# Altium schematic symbol library part_library.SchLib: 18 symbols
Pins are listed as number, name and electrical type; pins without a type are passive.

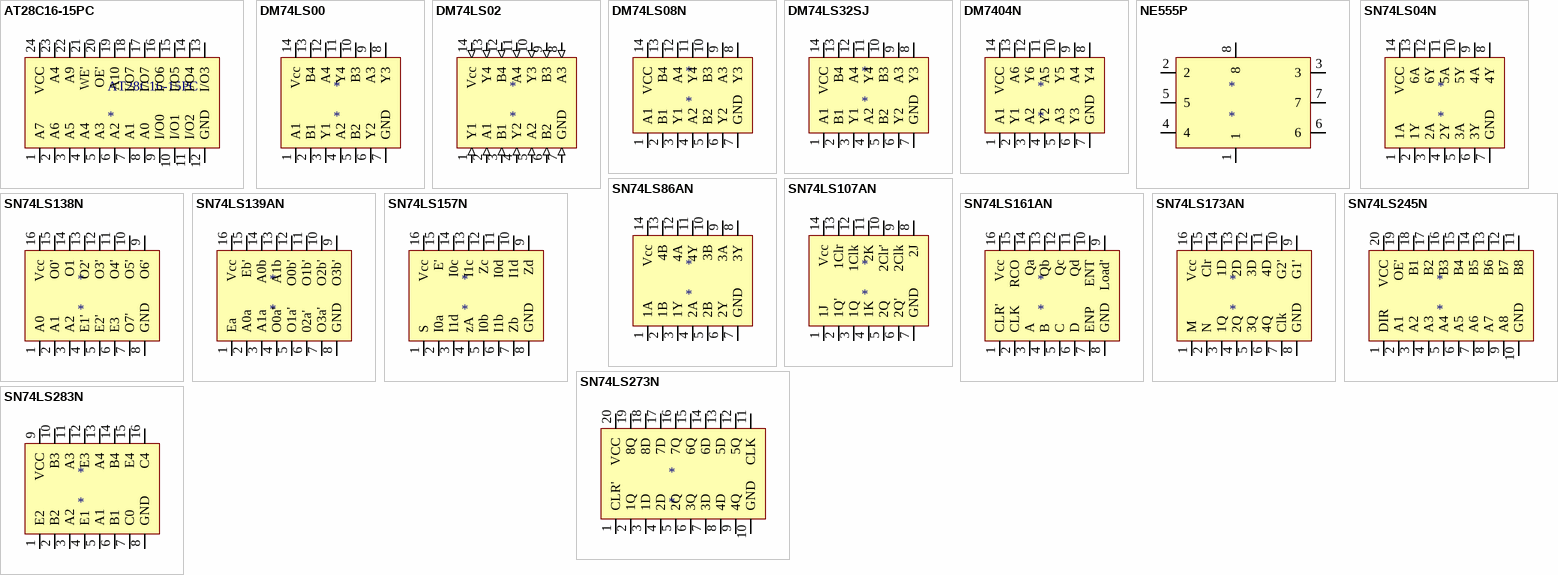
[diagram p0: symbols AT28C16-15PC to SN74LS283N]

## AT28C16-15PC
designator AT28C16-15PC
Manufacturer: Microchip / Atmel; Manufacturer Part Number: AT28C16-15PC; Access Time: 150ns; Operating Supply Voltage: 5V; Nominal Supply Current: 30mA; Min Supply Voltage: 4.5V; Max Supply Voltage: 5.5V; Interface: Parallel; Density: 16Kb; Memory Type: EEPROM; Frequency: 150GHz; Supplier 1: Digi-Key; Stock 1: 0; Mount: Through Hole; Case/Package: DIP; Number of Pins: 24; Min Operating Temperature: 0°C; Max Operating Temperature: 70°C; Package Quantity: 16; Packaging: Rail/Tube; Memory Size: 16Kb; Lead Free: Contains Lead; ComponentLink1URL: http://www.atmel.com/Images/doc0540.pdf?src-supplier=Digi-Key; ComponentLink1Description: http://www.atmel.com/Images/doc0540.pdf?src-supplier=Digi-Key; ComponentLink2URL: http://components.arrow.com/part/dataview/66884S2427492N3744?src-supplier=Arrow; ComponentLink2Description: http://components.arrow.com/part/dataview/66884S2427492N3744?src-supplier=Arrow; Supplier Part Number 1: AT28C16-15PC-ND
footprint AT28C16-15PC
pins: 1 A7, 2 A6, 3 A5, 4 A4, 5 A3, 6 A2, 7 A1, 8 A0, 9 I/O0, 10 I/O1, 11 I/O2, 12 GND, 13 I/O3, 14 I/O4, 15 I/O5, 16 I/O6, 17 I/O7, 18 I/O7, 19 A10, 20 OE', 21 WE', 22 A9, 23 A4, 24 VCC

## DM74LS00
designator *
Quad NAND gate 14-pin DIP
footprint DM74LS00
pins: 1 A1, 2 B1, 3 Y1, 4 A2, 5 B2, 6 Y2, 7 GND, 8 Y3, 9 A3, 10 B3, 11 Y4, 12 A4, 13 B4, 14 Vcc

## DM74LS02
designator *
Quad NOR gate 14-pin DIP
footprint DM74LS02
pins: 1 Y1 (in), 2 A1 (in), 3 B1 (in), 4 Y2 (in), 5 A2 (in), 6 B2 (in), 7 GND (in), 8 A3 (in), 9 B3 (in), 10 Y3 (in), 11 A4 (in), 12 B4 (in), 13 Y4 (in), 14 Vcc (in)

## DM74LS08N
designator *
IC GATE AND 4CH 2-INP 14-DIP; Manufacturer: ON Semiconductor / Fairchild; Manufacturer Part Number: DM74LS08N; Number of Gates: 4; Propagation Delay: 18ns; Max Supply Voltage: 5.25V; Min Supply Voltage: 4.75V; Number of Inputs: 2; Low Level Output Current: 8mA; High Level Output Current: -400uA; Supplier 1: Mouser; RoHS: Yes; Category: Logic Gates; Mount: Through Hole; Case/Package: DIP; Number of Pins: 14; Min Operating Temperature: 0°C; Max Operating Temperature: 70°C; Packaging: Rail/Tube; Package Quantity: 25; Number of Circuits: 4; Logic Function: AND; Lead Free: Contains Lead; ComponentLink1URL: https://datasheet.ciiva.com/4825/74ls08-196234-4825713.pdf?src-supplier=Mouser; ComponentLink1Description: https://datasheet.ciiva.com/4825/74ls08-196234-4825713.pdf?src-supplier=Mouser; ComponentLink2URL: https://datasheet.ciiva.com/1877/dm74ls08-1877307.pdf?src-supplier=Digi-Key; ComponentLink2Description: https://datasheet.ciiva.com/1877/dm74ls08-1877307.pdf?src-supplier=Digi-Key; Supplier Part Number 1: 512-DM74LS08N
footprint SN74LS08N
pins: 1 A1, 2 B1, 3 Y1, 4 A2, 5 B2, 6 Y2, 7 GND, 8 Y3, 9 A3, 10 B3, 11 Y4, 12 A4, 13 B4, 14 VCC

## DM74LS32SJ
designator *
Logic Gates Quad 2-Input OR Gate; Manufacturer: ON Semiconductor / Fairchild; Manufacturer Part Number: DM74LS32SJ; Propagation Delay: 15ns; Max Supply Voltage: 5.25V; Min Supply Voltage: 4.75V; Number of Gates: 4; Low Level Output Current: 8mA; High Level Output Current: -400uA; Number of Input Lines: 2; Number of Output Lines: 1; Supplier 1: Mouser; RoHS: Yes; Category: Logic Gates; Case/Package: SOP; Min Operating Temperature: 0°C; Max Operating Temperature: 70°C; Packaging: Rail/Tube; ComponentLink1URL: http://www.mouser.com/ds/2/149/FairchildSemiconductor_16141919504962-795956.pdf?src-supplier=Mouser; ComponentLink1Description: http://www.mouser.com/ds/2/149/FairchildSemiconductor_16141919504962-795956.pdf?src-supplier=Mouser; Supplier Part Number 1: 512-DM74LS32SJ
footprint SN74LS32N
pins: 1 A1, 2 B1, 3 Y1, 4 A2, 5 B2, 6 Y2, 7 GND, 8 Y3, 9 A3, 10 B3, 11 Y4, 12 A4, 13 B4, 14 VCC

## DM7404N
designator *
IC INVERTER HEX 14-DIP; Manufacturer: ON Semiconductor / Fairchild; Manufacturer Part Number: DM7404N; Max Supply Voltage: 5.25V; Min Supply Voltage: 4.75V; Number of Inputs: 1; Propagation Delay: 22ns; Number of Circuits: 6; Low Level Output Current: 16mA; Logic Function: Buffer,Inverter; High Level Output Current: -400uA; Operating Supply Voltage: 5V; Supplier 1: Mouser; RoHS: No; Category: Logic Gates; Mount: Through Hole; Case/Package: DIP; Number of Pins: 14; Min Operating Temperature: 0°C; Max Operating Temperature: 70°C; Packaging: Rail/Tube; Package Quantity: 25; Number of Gates: 6; Lead Free: Contains Lead; ComponentLink1URL: https://datasheet.ciiva.com/1877/dm7404-1877284.pdf?src-supplier=Digi-Key; ComponentLink1Description: https://datasheet.ciiva.com/1877/dm7404-1877284.pdf?src-supplier=Digi-Key; Supplier Part Number 1: 512-DM7404N
footprint SN74LS04N
pins: 1 A1, 2 Y1, 3 A2, 4 Y2, 5 A3, 6 Y3, 7 GND, 8 Y4, 9 A4, 10 Y5, 11 A5, 12 Y6, 13 A6, 14 VCC

## NE555P
designator *
TEXAS INSTRUMENTS         NE555P            TIMER SINGLE PRECISION,DIP8 ,0.5MHZ; Frequency: 500kHz; Quiescent Current: 15mA; Operating Supply Current: 10mA; Min Supply Voltage: 4.5V; Max Supply Voltage: 16V; Nominal Supply Current: 2mA; Number of Timers/Counters: 1; High Level Output Current: -200mA; Low Level Output Current: 200mA; Operating Supply Voltage: 5V; Supplier 1: Digi-Key; Manufacturer: Texas Instruments; Manufacturer Part Number: NE555P; RoHS: Yes; Category: Clock and Timing; Stock 1: 8033; Pricing 1: 1=0,45000, 10=0,34200, 25=0,30800, 100=0,21280, 250=0,17920, 500=0,14560, 1000=0,11200, 2500=0,10080, 5000=0,09520 (USD); Mount: Through Hole; Case/Package: PDIP; Number of Pins: 8; Weight: 0.015535oz; Contact Plating: Gold; Min Operating Temperature: 0°C; Max Operating Temperature: 70°C; Packaging: Rail/Tube; Package Quantity: 50; Current Rating: 10mA; Length: 9.81mm; Height: 4.57mm; Width: 6.35mm; Radiation Hardening: No; Lead Free: Lead Free; REACH SVHC: No SVHC; ComponentLink1URL: https://datasheet.ciiva.com/19457/904085-19457361.pdf?src-supplier=Jameco; ComponentLink1Description: https://datasheet.ciiva.com/19457/904085-19457361.pdf?src-supplier=Jameco; ComponentLink2URL: https://datasheet.ciiva.com/1139/sa555-1139904.pdf?src-supplier=Element14; ComponentLink2Description: https://datasheet.ciiva.com/1139/sa555-1139904.pdf?src-supplier=Element14; ComponentLink3URL: https://datasheet.ciiva.com/26325/152184-da-01-en-ne555p-timer-tid-26325915.pdf?src-supplier=Conrad; ComponentLink3Description: https://datasheet.ciiva.com/26325/152184-da-01-en-ne555p-timer-tid-26325915.pdf?src-supplier=Conrad; ComponentLink4URL: https://datasheet.ciiva.com/1147/1764032-1147750.pdf?src-supplier=Newark; ComponentLink4Description: https://datasheet.ciiva.com/1147/1764032-1147750.pdf?src-supplier=Newark; ComponentLink5URL: https://datasheet.ciiva.com/14094/ne555-series-eng-tds-14094950.pdf?src-supplier=Distrelec; ComponentLink5Description: https://datasheet.ciiva.com/14094/ne555-series-eng-tds-14094950.pdf?src-supplier=Distrelec; ComponentLink6URL: https://datasheet.ciiva.com/14274/ne555-14274456.pdf?src-supplier=Avnet; ComponentLink6Description: https://datasheet.ciiva.com/14274/ne555-14274456.pdf?src-supplier=Avnet; ComponentLink7URL: https://datasheet.ciiva.com/15152/getdatasheetpartid-248510-15152620.pdf?src-supplier=Verical; ComponentLink7Description: https://datasheet.ciiva.com/15152/getdatasheetpartid-248510-15152620.pdf?src-supplier=Verical; ComponentLink8URL: https://datasheet.ciiva.com/1233/ne555-1233454.pdf?src-supplier=Digi-Key; ComponentLink8Description: https://datasheet.ciiva.com/1233/ne555-1233454.pdf?src-supplier=Digi-Key; ComponentLink9URL: https://datasheet.ciiva.com/26228/ne555-26228892.pdf?src-supplier=Avnet+Europe; ComponentLink9Description: https://datasheet.ciiva.com/26228/ne555-26228892.pdf?src-supplier=Avnet+Europe; Supplier Part Number 1: 296-NE555P-ND
footprint LM555
pins: 1, 2, 3, 4, 5, 6, 7, 8

## SN74LS04N
designator *
IC HEX INVERTER 14-DIP; Manufacturer: Texas Instruments; Manufacturer Part Number: SN74LS04N; Propagation Delay: 15ns; Number of Gates: 6; Output Current: 8mA; Logic Function: Buffer,Inverter; Number of Inputs: 1; Min Supply Voltage: 4.75V; Max Supply Voltage: 5.25V; Operating Supply Voltage: 5V; Turn-On Delay Time: 22ns; High Level Output Current: -400uA; Nominal Supply Current: 100uA; Schmitt Trigger Input: No; Supplier 1: RSComponents; Stock 1: 0; Mount: Through Hole; Case/Package: PDIP; Number of Pins: 14; Weight: 0.032734oz; Contact Plating: Gold; Min Operating Temperature: 0°C; Max Operating Temperature: 70°C; Number of Bits: 6; Packaging: Rail/Tube; Number of Circuits: 6; Package Quantity: 25; Low Level Output Current: 8mA; Number of Elements: 6; Max Output Current: 8mA; Termination: Through Hole; Number of Output Lines: 6; Length: 19.3mm; Height: 4.57mm; Width: 6.35mm; Radiation Hardening: No; Lead Free: Lead Free; REACH SVHC: No SVHC; ComponentLink1URL: http://www.ti.com/lit/ds/symlink/sn74ls04.pdf?src-supplier=Digi-Key; ComponentLink1Description: http://www.ti.com/lit/ds/symlink/sn74ls04.pdf?src-supplier=Digi-Key; ComponentLink2URL: http://www.ti.com/general/docs/lit/getliterature.tsp?genericPartNumber=SN54LS04-SP&&fileType=pdf&src-supplier=Avnet; ComponentLink2Description: http://www.ti.com/general/docs/lit/getliterature.tsp?genericPartNumber=SN54LS04-SP&&fileType=pdf&src-supplier=Avnet; ComponentLink3URL: https://www.verical.com/server-webapp/html/getDatasheet?partID=257461&src-supplier=Verical; ComponentLink3Description: https://www.verical.com/server-webapp/html/getDatasheet?partID=257461&src-supplier=Verical; ComponentLink4URL: https://www.distrelec.biz/Web/Downloads/55/06/ix645506.pdf?mime=application%2Fpdf&src-supplier=Distrelec; ComponentLink4Description: https://www.distrelec.biz/Web/Downloads/55/06/ix645506.pdf?mime=application%2Fpdf&src-supplier=Distrelec; ComponentLink5URL: http://www.ti.com/lit/ds/symlink/sn54ls04-sp.pdf?src-supplier=Avnet+Europe; ComponentLink5Description: http://www.ti.com/lit/ds/symlink/sn54ls04-sp.pdf?src-supplier=Avnet+Europe; ComponentLink6URL: http://www.produktinfo.conrad.com/datenblaetter/1000000-1099999/001016869-da-01-en-IC_HEX_INV_SN74LS0_SN74LS04N_PDIP_14_TID.pdf?src-supplier=Conrad; ComponentLink6Description: http://www.produktinfo.conrad.com/datenblaetter/1000000-1099999/001016869-da-01-en-IC_HEX_INV_SN74LS0_SN74LS04N_PDIP_14_TID.pdf?src-supplier=Conrad; ComponentLink7URL: http://www.produktinfo.conrad.com/datenblaetter/150000-174999/172049-da-01-en-IC_SN74_LS_04_N_DIP14_TID.pdf?src-supplier=Conrad; ComponentLink7Description: http://www.produktinfo.conrad.com/datenblaetter/150000-174999/172049-da-01-en-IC_SN74_LS_04_N_DIP14_TID.pdf?src-supplier=Conrad; Supplier Part Number 1: 9232326
footprint SN74LS04N
pins: 1 1A, 2 1Y, 3 2A, 4 2Y, 5 3A, 6 3Y, 7 GND, 8 4Y, 9 4A, 10 5Y, 11 5A, 12 6Y, 13 6A, 14 VCC

## SN74LS86AN
designator *
IC GATE XOR 4CH 2-INP 14-DIP; Manufacturer: Texas Instruments; Manufacturer Part Number: SN74LS86AN; Logic Function: XOR,OR; Number of Elements: 4; Propagation Delay: 30ns; Max Supply Voltage: 5.25V; Min Supply Voltage: 4.75V; Operating Supply Voltage: 5V; Number of Outputs: 1; Output Current: 8mA; Number of Inputs: 2; High Level Output Current: -400uA; Quiescent Current: 6.1mA; Schmitt Trigger Input: No; Supplier 1: Newark; Stock 1: 0; Mount: Through Hole; Case/Package: PDIP; Number of Pins: 14; Weight: 0.032734oz; Contact Plating: Gold; Min Operating Temperature: 0°C; Max Operating Temperature: 70°C; Packaging: Rail/Tube; Package Quantity: 25; Number of Circuits: 4; Number of Gates: 4; Number of Input Lines: 2; Number of Output Lines: 1; Low Level Output Current: 8mA; Turn-On Delay Time: 30ns; Number of Bits: 4; Length: 19.3mm; Height: 4.57mm; Width: 6.35mm; Radiation Hardening: No; Lead Free: Lead Free; REACH SVHC: No SVHC; ComponentLink1URL: http://focus.ti.com/lit/ds/symlink/sn74s86.pdf?src-supplier=Avnet+Europe; ComponentLink1Description: http://focus.ti.com/lit/ds/symlink/sn74s86.pdf?src-supplier=Avnet+Europe; ComponentLink2URL: https://www.distrelec.biz/Web/Downloads/39/_e/jl645539_e.pdf?mime=application%2Fpdf&src-supplier=Distrelec; ComponentLink2Description: https://www.distrelec.biz/Web/Downloads/39/_e/jl645539_e.pdf?mime=application%2Fpdf&src-supplier=Distrelec; ComponentLink3URL: http://www.produktinfo.conrad.com/datenblaetter/1000000-1099999/001017015-da-01-en-IC_QUA_2IN_EX_OR_SN74LS86AN_PDIP_14_TID.pdf?src-supplier=Conrad; ComponentLink3Description: http://www.produktinfo.conrad.com/datenblaetter/1000000-1099999/001017015-da-01-en-IC_QUA_2IN_EX_OR_SN74LS86AN_PDIP_14_TID.pdf?src-supplier=Conrad; ComponentLink4URL: http://www.produktinfo.conrad.com/datenblaetter/150000-174999/169331-da-01-en-IC_SN_74_LS_86AN_DIP14_TID.pdf?src-supplier=Conrad; ComponentLink4Description: http://www.produktinfo.conrad.com/datenblaetter/150000-174999/169331-da-01-en-IC_SN_74_LS_86AN_DIP14_TID.pdf?src-supplier=Conrad; Supplier Part Number 1: 50R6597
footprint SN74LS86AN
pins: 1 1A, 2 1B, 3 1Y, 4 2A, 5 2B, 6 2Y, 7 GND, 8 3Y, 9 3A, 10 3B, 11 4Y, 12 4A, 13 4B, 14 Vcc

## SN74LS107AN
designator *
Flip Flop JK-Type Neg-Edge 2-Element 14-Pin PDIP Tube; Manufacturer: Texas Instruments; Manufacturer Part Number: SN74LS107AN; Operating Supply Voltage: 5V; Propagation Delay: 20ns; Frequency: 45MHz; Min Supply Voltage: 4.75V; Max Supply Voltage: 5.25V; Number of Elements: 2; Logic Function: Flip-Flop,JK-Type; Clock Edge Trigger Type: Negative Edge,Positive Edge; Output Current: 8mA; Polarity: Non-Inverting; Number of Input Lines: 4; Number of Bits per Element: 1; Turn-On Delay Time: 15ns; High Level Output Current: -400uA; Output Type: TTL; Nominal Supply Current: 100uA; Supplier 1: Newark; Stock 1: 0; Mount: Through Hole; Case/Package: PDIP; Number of Pins: 14; Weight: 0.032734oz; Min Operating Temperature: 0°C; Max Operating Temperature: 70°C; Packaging: Rail/Tube; Package Quantity: 25; Number of Circuits: 2; Low Level Output Current: 8mA; Number of Output Lines: 2; Number of Bits: 2; Max Frequency: 45MHz; Length: 19.69mm; Height: 4.57mm; Width: 6.6mm; Radiation Hardening: No; Lead Free: Lead Free; REACH SVHC: No SVHC; ComponentLink1URL: https://www.distrelec.biz/Web/Downloads/_t/ds/sn74ls107a_eng_tds.pdf?mime=application%2Fpdf&src-supplier=Distrelec; ComponentLink1Description: https://www.distrelec.biz/Web/Downloads/_t/ds/sn74ls107a_eng_tds.pdf?mime=application%2Fpdf&src-supplier=Distrelec; ComponentLink2URL: http://focus.ti.com/lit/ds/symlink/sn74107.pdf?src-supplier=Avnet+Europe; ComponentLink2Description: http://focus.ti.com/lit/ds/symlink/sn74107.pdf?src-supplier=Avnet+Europe; ComponentLink3URL: http://www.ti.com/general/docs/lit/getliterature.tsp?genericPartNumber=SN74LS107A&&fileType=pdf&src-supplier=Avnet; ComponentLink3Description: http://www.ti.com/general/docs/lit/getliterature.tsp?genericPartNumber=SN74LS107A&&fileType=pdf&src-supplier=Avnet; ComponentLink4URL: https://source.z2data.com/2016/10/12/6/26/54/563/639426/sn74107.pdf?src-supplier=Digi-Key; ComponentLink4Description: https://source.z2data.com/2016/10/12/6/26/54/563/639426/sn74107.pdf?src-supplier=Digi-Key; ComponentLink5URL: http://www.farnell.com/datasheets/1967736.pdf?src-supplier=Element14; ComponentLink5Description: http://www.farnell.com/datasheets/1967736.pdf?src-supplier=Element14; ComponentLink6URL: https://www.verical.com/server-webapp/html/getDatasheet?partID=250176&src-supplier=Verical; ComponentLink6Description: https://www.verical.com/server-webapp/html/getDatasheet?partID=250176&src-supplier=Verical; Supplier Part Number 1: 95M4428
footprint DM74LS107
pins: 1 1J, 2 1Q', 3 1Q, 4 1K, 5 2Q, 6 2Q', 7 GND, 8 2J, 9 2Clk, 10 2Clr', 11 2K, 12 1Clk, 13 1Clr, 14 Vcc

## SN74LS138N
designator *
IC 3-8 LINE DECODER/DEMUX 16-DIP; Manufacturer: Texas Instruments; Manufacturer Part Number: SN74LS138N; Number of Bits: 8; Number of Inputs: 3; Max Supply Voltage: 5.25V; Min Supply Voltage: 4.75V; Operating Supply Voltage: 5V; Propagation Delay: 41ns; Logic Function: Demultiplexer,Decoder; Number of Elements: 1; Polarity: Inverting; High Level Output Current: -400uA; Low Level Output Current: 8mA; Supply Type: Single; Bandwidth: 35MHz; Max Power Dissipation: 1mW; Quiescent Current: 6.3mA; Supplier 1: Newark; Stock 1: 0; Mount: Through Hole; Case/Package: PDIP; Number of Pins: 16; Weight: 0.03357oz; Contact Plating: Gold; Min Operating Temperature: 0°C; Max Operating Temperature: 70°C; Number of Outputs: 8; Packaging: Rail/Tube; Package Quantity: 25; Number of Input Lines: 3; Number of Output Lines: 8; Turn-On Delay Time: 41ns; Independent Circuits: 1; Number of Channels: 1; Number of Circuits: 1; Length: 19.3mm; Height: 4.57mm; Width: 6.35mm; Radiation Hardening: No; Lead Free: Lead Free; REACH SVHC: No SVHC; ComponentLink1URL: https://www.verical.com/server-webapp/html/getDatasheet?partID=134886&src-supplier=Verical; ComponentLink1Description: https://www.verical.com/server-webapp/html/getDatasheet?partID=134886&src-supplier=Verical; ComponentLink2URL: http://www.ti.com/lit/ds/symlink/sn54ls138-sp.pdf?src-supplier=Avnet+Europe; ComponentLink2Description: http://www.ti.com/lit/ds/symlink/sn54ls138-sp.pdf?src-supplier=Avnet+Europe; ComponentLink3URL: https://www.distrelec.biz/Web/Downloads/5_/en/qq646635_EN.pdf?mime=application%2Fpdf&src-supplier=Distrelec; ComponentLink3Description: https://www.distrelec.biz/Web/Downloads/5_/en/qq646635_EN.pdf?mime=application%2Fpdf&src-supplier=Distrelec; ComponentLink4URL: http://www.ti.com/general/docs/lit/getliterature.tsp?genericPartNumber=SN74S138A&&fileType=pdf&src-supplier=Avnet; ComponentLink4Description: http://www.ti.com/general/docs/lit/getliterature.tsp?genericPartNumber=SN74S138A&&fileType=pdf&src-supplier=Avnet; ComponentLink5URL: http://www.produktinfo.conrad.com/datenblaetter/150000-174999/169463-da-01-en-IC_SN_74_LS_138__N__DIP16__TID.pdf?src-supplier=Conrad; ComponentLink5Description: http://www.produktinfo.conrad.com/datenblaetter/150000-174999/169463-da-01-en-IC_SN_74_LS_138__N__DIP16__TID.pdf?src-supplier=Conrad; Supplier Part Number 1: 67T1483
footprint SN74LS138N
pins: 1 A0, 2 A1, 3 A2, 4 E1', 5 E2', 6 E3, 7 O7', 8 GND, 9 O6', 10 O5', 11 O4', 12 O3', 13 O2', 14 O1, 15 O0', 16 Vcc

## SN74LS139AN
designator *
TEXAS INSTRUMENTS         SN74LS139AN            IC, DECODER/DEMUX, 74LS139; Operating Supply Voltage: 5V; Number of Elements: 2; Min Supply Voltage: 4.75V; Max Supply Voltage: 5.25V; Number of Outputs: 4; Propagation Delay: 33ns; Polarity: Inverting; High Level Output Current: -400uA; Low Level Output Current: 8mA; Supply Type: Single; Logic Function: Demultiplexer,Decoder; Turn-On Delay Time: 38ns; Bandwidth: 35MHz; Throw Configuration: DP4T; Nominal Supply Current: 100uA; Max Power Dissipation: 200mW; Supplier 1: RSComponents; Manufacturer: Texas Instruments; Manufacturer Part Number: SN74LS139AN; Stock 1: 0; Mount: Through Hole; Case/Package: PDIP; Number of Pins: 16; Weight: 0.03357oz; Min Operating Temperature: 0°C; Max Operating Temperature: 70°C; Packaging: Rail/Tube; Package Quantity: 25; Number of Inputs: 2; Independent Circuits: 2; Number of Input Lines: 2; Number of Output Lines: 4; Number of Bits: 4; Number of Channels: 2; Number of Circuits: 2; Length: 19.3mm; Height: 4.57mm; Width: 6.35mm; Radiation Hardening: No; Lead Free: Lead Free; REACH SVHC: No SVHC; ComponentLink1URL: http://www.farnell.com/datasheets/2018724.pdf?src-supplier=Element14; ComponentLink1Description: http://www.farnell.com/datasheets/2018724.pdf?src-supplier=Element14; ComponentLink2URL: https://www.distrelec.biz/Web/Downloads/57/06/lm645706.pdf?mime=application%2Fpdf&src-supplier=Distrelec; ComponentLink2Description: https://www.distrelec.biz/Web/Downloads/57/06/lm645706.pdf?mime=application%2Fpdf&src-supplier=Distrelec; ComponentLink3URL: http://www.ti.com/lit/ds/symlink/sn74s139a.pdf?src-supplier=Digi-Key; ComponentLink3Description: http://www.ti.com/lit/ds/symlink/sn74s139a.pdf?src-supplier=Digi-Key; ComponentLink4URL: https://www.verical.com/server-webapp/html/getDatasheet?partID=83287&src-supplier=Verical; ComponentLink4Description: https://www.verical.com/server-webapp/html/getDatasheet?partID=83287&src-supplier=Verical; Supplier Part Number 1: 308253
footprint SN74LS139AN
pins: 1 Ea, 2 A0a, 3 A1a, 4 O0a', 5 O1a', 6 02a', 7 O3a', 8 GND, 9 O3b', 10 O2b', 11 O1b', 12 O0b', 13 A1b, 14 A0b, 15 Eb', 16 Vcc

## SN74LS157N
designator *
TEXAS INSTRUMENTS         SN74LS157N            IC, 74LS, 74LS157, DIP16, 5.25V; Logic Function: Multiplexer; Propagation Delay: 14ns; Min Supply Voltage: 4.75V; Number of Input Lines: 2; Number of Output Lines: 1; Low Level Output Current: 8mA; High Level Output Current: -400uA; Supply Type: Single; Bandwidth: 35MHz; Number of Bits: 4; Polarity: Non-Inverting; Throw Configuration: DPST; Quiescent Current: 9.7mA; Number of Inputs: 8; Operating Supply Voltage: 5V; Max Power Dissipation: 500mW; Power Dissipation: 49mW; Supplier 1: RSComponents; Manufacturer: Texas Instruments; Manufacturer Part Number: SN74LS157N; Stock 1: 0; Mount: Through Hole; Case/Package: PDIP; Number of Pins: 16; Weight: 0.03357oz; Min Operating Temperature: 0°C; Max Operating Temperature: 70°C; Packaging: Rail/Tube; Max Supply Voltage: 5.25V; Package Quantity: 25; Independent Circuits: 1; Number of Circuits: 4; Number of Channels: 4; Number of Outputs: 4; Nominal Supply Current: 9.7mA; Length: 19.3mm; Height: 4.57mm; Width: 6.35mm; Radiation Hardening: No; Lead Free: Lead Free; REACH SVHC: No SVHC; ComponentLink1URL: http://www.farnell.com/datasheets/2008081.pdf?src-supplier=Element14; ComponentLink1Description: http://www.farnell.com/datasheets/2008081.pdf?src-supplier=Element14; ComponentLink2URL: https://www.verical.com/server-webapp/html/getDatasheet?partID=255449&src-supplier=Verical; ComponentLink2Description: https://www.verical.com/server-webapp/html/getDatasheet?partID=255449&src-supplier=Verical; ComponentLink3URL: http://focus.ti.com/lit/ds/symlink/sn74157.pdf?src-supplier=Avnet+Europe; ComponentLink3Description: http://focus.ti.com/lit/ds/symlink/sn74157.pdf?src-supplier=Avnet+Europe; ComponentLink4URL: https://www.distrelec.biz/Web/Downloads/82/_e/lg645682_e.pdf?mime=application%2Fpdf&src-supplier=Distrelec; ComponentLink4Description: https://www.distrelec.biz/Web/Downloads/82/_e/lg645682_e.pdf?mime=application%2Fpdf&src-supplier=Distrelec; ComponentLink5URL: http://www.ti.com/lit/ds/symlink/sn74ls157.pdf?src-supplier=Digi-Key; ComponentLink5Description: http://www.ti.com/lit/ds/symlink/sn74ls157.pdf?src-supplier=Digi-Key; ComponentLink6URL: http://www.produktinfo.conrad.com/datenblaetter/150000-174999/169536-da-01-en-IC_SN74_LS157N__DIP16__TID.pdf?src-supplier=Conrad; ComponentLink6Description: http://www.produktinfo.conrad.com/datenblaetter/150000-174999/169536-da-01-en-IC_SN74_LS157N__DIP16__TID.pdf?src-supplier=Conrad; ComponentLink7URL: http://datasheet.iiic.cc/texas_instruments/SN74LS157N.pdf?src-supplier=IIIC; ComponentLink7Description: http://datasheet.iiic.cc/texas_instruments/SN74LS157N.pdf?src-supplier=IIIC; Supplier Part Number 1: 0307676
footprint SN74LS157N
pins: 1 S, 2 I0a, 3 I1d, 4 zA, 5 I0b, 6 I1b, 7 Zb, 8 GND, 9 Zd, 10 I1d, 11 I0d, 12 Zc, 13 I1c, 14 I0c, 15 E', 16 Vcc

## SN74LS161AN
designator *
TEXAS INSTRUMENTS         SN74LS161AN            Counter Type:Binary; Number of Bits: 4; Operating Supply Voltage: 5V; Frequency: 32MHz; Number of Elements: 1; Direction: Up,Unidirectional; Reset: Asynchronous; Sync/Async: Synchronous; Clock Edge Trigger Type: Positive Edge; Min Supply Voltage: 4.75V; Max Supply Voltage: 5.25V; Propagation Delay: 35ns; Nominal Supply Current: 100uA; Supplier 1: Newark; Manufacturer: Texas Instruments; Manufacturer Part Number: SN74LS161AN; Stock 1: 0; Mount: Through Hole; Case/Package: PDIP; Number of Pins: 16; Weight: 0.03357oz; Min Operating Temperature: 0°C; Max Operating Temperature: 70°C; Packaging: Rail/Tube; Logic Function: Counter; Package Quantity: 25; Number of Bits per Element: 4; Number of Circuits: 4; Turn-On Delay Time: 35ns; Length: 19.3mm; Height: 4.57mm; Width: 6.35mm; Radiation Hardening: No; Lead Free: Contains Lead; REACH SVHC: No SVHC; ComponentLink1URL: http://www.ti.com/general/docs/lit/getliterature.tsp?genericPartNumber=SN74S163&&fileType=pdf&src-supplier=Avnet; ComponentLink1Description: http://www.ti.com/general/docs/lit/getliterature.tsp?genericPartNumber=SN74S163&&fileType=pdf&src-supplier=Avnet; ComponentLink2URL: https://www.verical.com/server-webapp/html/getDatasheet?partID=248154&src-supplier=Verical; ComponentLink2Description: https://www.verical.com/server-webapp/html/getDatasheet?partID=248154&src-supplier=Verical; ComponentLink3URL: https://www.distrelec.biz/Web/Downloads/56/54/kx645654.pdf?mime=application%2Fpdf&src-supplier=Distrelec; ComponentLink3Description: https://www.distrelec.biz/Web/Downloads/56/54/kx645654.pdf?mime=application%2Fpdf&src-supplier=Distrelec; ComponentLink4URL: http://www.ti.com/lit/ds/symlink/sn74ls163a.pdf?src-supplier=Digi-Key; ComponentLink4Description: http://www.ti.com/lit/ds/symlink/sn74ls163a.pdf?src-supplier=Digi-Key; ComponentLink5URL: http://www.produktinfo.conrad.com/datenblaetter/1000000-1099999/001016908-da-01-en-IC_4BIT_SYNC_CNT_SN74LS161AN_PDIP_16_TID.pdf?src-supplier=Conrad; ComponentLink5Description: http://www.produktinfo.conrad.com/datenblaetter/1000000-1099999/001016908-da-01-en-IC_4BIT_SYNC_CNT_SN74LS161AN_PDIP_16_TID.pdf?src-supplier=Conrad; Supplier Part Number 1: 95M4440
footprint SN74LS161AN
pins: 1 CLR', 2 CLK, 3 A, 4 B, 5 C, 6 D, 7 ENP, 8 GND, 9 Load', 10 ENT, 11 Qd, 12 Qc, 13 Qb, 14 Qa, 15 RCO, 16 Vcc

## SN74LS173AN
designator *
TEXAS INSTRUMENTS   SN74LS173AN   Flip-Flop, Tri State Non Inverted, Positive Edge, D, 17 ns, 50 MHz, 24 mA, DIP, 16 Pins; Number of Elements: 1; Propagation Delay: 30ns; Frequency: 50MHz; Number of Bits per Element: 4; High Level Output Current: -2.6mA; Low Level Output Current: 24mA; Min Supply Voltage: 4.75V; Max Supply Voltage: 5.25V; Logic Function: D-Type; Turn-On Delay Time: 28ns; Polarity: Non-Inverting; Number of Input Lines: 2; Operating Supply Voltage: 5V; Output Type: TTL; Supplier 1: RSComponents; Manufacturer: Texas Instruments; Manufacturer Part Number: SN74LS173AN; Stock 1: 0; Mount: Through Hole; Case/Package: PDIP; Number of Pins: 16; Weight: 0.03357oz; Min Operating Temperature: 0°C; Max Operating Temperature: 70°C; Packaging: Rail/Tube; Clock Edge Trigger Type: Positive Edge; Output Current: 24mA; Package Quantity: 25; Number of Circuits: 1; Number of Output Lines: 1; Number of Bits: 4; Max Frequency: 50MHz; Length: 19.3mm; Height: 4.57mm; Width: 6.35mm; Radiation Hardening: No; Lead Free: Lead Free; REACH SVHC: No SVHC; ComponentLink1URL: https://www.distrelec.biz/Web/Downloads/56/11/kd645611.pdf?mime=application%2Fpdf&src-supplier=Distrelec; ComponentLink1Description: https://www.distrelec.biz/Web/Downloads/56/11/kd645611.pdf?mime=application%2Fpdf&src-supplier=Distrelec; ComponentLink2URL: http://focus.ti.com/lit/ds/symlink/sn74ls173a.pdf?src-supplier=Avnet+Europe; ComponentLink2Description: http://focus.ti.com/lit/ds/symlink/sn74ls173a.pdf?src-supplier=Avnet+Europe; ComponentLink3URL: http://www.ti.com/general/docs/lit/getliterature.tsp?genericPartNumber=SN54LS173A&&fileType=pdf&src-supplier=Avnet; ComponentLink3Description: http://www.ti.com/general/docs/lit/getliterature.tsp?genericPartNumber=SN54LS173A&&fileType=pdf&src-supplier=Avnet; ComponentLink4URL: https://www.verical.com/server-webapp/html/getDatasheet?partID=247094&src-supplier=Verical; ComponentLink4Description: https://www.verical.com/server-webapp/html/getDatasheet?partID=247094&src-supplier=Verical; ComponentLink5URL: http://www.ti.com/lit/ds/symlink/sn74ls173a.pdf?src-supplier=Digi-Key; ComponentLink5Description: http://www.ti.com/lit/ds/symlink/sn74ls173a.pdf?src-supplier=Digi-Key; ComponentLink6URL: http://datasheet.iiic.cc/texas_instruments/SN74LS173AN.pdf?src-supplier=IIIC; ComponentLink6Description: http://datasheet.iiic.cc/texas_instruments/SN74LS173AN.pdf?src-supplier=IIIC; Supplier Part Number 1: 1624294
footprint SN74LS173AN
pins: 1 M, 2 N, 3 1Q, 4 2Q, 5 3Q, 6 4Q, 7 Clk, 8 GND, 9 G1', 10 G2', 11 4D, 12 3D, 13 2D, 14 1D, 15 Clr, 16 Vcc

## SN74LS245N
designator *
IC TXRX NON-INVERT 5.25V 20DIP; Manufacturer: Texas Instruments; Manufacturer Part Number: SN74LS245N; Propagation Delay: 12ns; Logic Function: Transceiver,Inverting; Polarity: Non-Inverting; Number of Outputs: 8; Min Supply Voltage: 4.75V; Operating Supply Voltage: 5V; Number of Elements: 1; Direction: Bidirectional; Low Level Output Current: 24mA; High Level Output Current: -15mA; Quiescent Current: 62mA; Supplier 1: Newark; Stock 1: 0; Mount: Through Hole; Case/Package: PDIP; Number of Pins: 20; Weight: 0.042297oz; Contact Plating: Gold; Min Operating Temperature: 0°C; Max Operating Temperature: 70°C; Number of Bits: 8; Max Supply Voltage: 5.25V; Packaging: Rail/Tube; Number of Channels: 8; Package Quantity: 20; Number of Circuits: 8; Number of Bits per Element: 8; Turn-On Delay Time: 12ns; Number of Transceivers: 8; Termination: Through Hole; Length: 24.33mm; Height: 4.57mm; Width: 6.35mm; Radiation Hardening: No; Lead Free: Lead Free; REACH SVHC: No SVHC; ComponentLink1URL: http://www.ti.com/lit/gpn/sn74ls245?src-supplier=Mouser; ComponentLink1Description: http://www.ti.com/lit/gpn/sn74ls245?src-supplier=Mouser; ComponentLink2URL: https://www.distrelec.biz/Web/Downloads/57/_e/mx645757_E.pdf?mime=application%2Fpdf&src-supplier=Distrelec; ComponentLink2Description: https://www.distrelec.biz/Web/Downloads/57/_e/mx645757_E.pdf?mime=application%2Fpdf&src-supplier=Distrelec; ComponentLink3URL: http://www.ti.com/general/docs/lit/getliterature.tsp?genericPartNumber=SN74LS245&&fileType=pdf&src-supplier=Farnell; ComponentLink3Description: http://www.ti.com/general/docs/lit/getliterature.tsp?genericPartNumber=SN74LS245&&fileType=pdf&src-supplier=Farnell; ComponentLink4URL: http://www.ti.com/lit/ds/symlink/sn54ls245.pdf?src-supplier=Avnet+Europe; ComponentLink4Description: http://www.ti.com/lit/ds/symlink/sn54ls245.pdf?src-supplier=Avnet+Europe; ComponentLink5URL: http://www.ti.com/lit/ds/symlink/sn74ls245.pdf?src-supplier=Digi-Key; ComponentLink5Description: http://www.ti.com/lit/ds/symlink/sn74ls245.pdf?src-supplier=Digi-Key; ComponentLink6URL: https://www.verical.com/server-webapp/html/getDatasheet?partID=247098&src-supplier=Verical; ComponentLink6Description: https://www.verical.com/server-webapp/html/getDatasheet?partID=247098&src-supplier=Verical; ComponentLink7URL: http://www.ti.com/general/docs/lit/getliterature.tsp?genericPartNumber=SN74LS245&amp;&amp;fileType=pdf&src-supplier=Newark; ComponentLink7Description: http://www.ti.com/general/docs/lit/getliterature.tsp?genericPartNumber=SN74LS245&amp;&amp;fileType=pdf&src-supplier=Newark; ComponentLink8URL: http://www.produktinfo.conrad.com/datenblaetter/150000-174999/172162-da-01-en-IC__SN_74_LS_245_N_DIP20__TID.pdf?src-supplier=Conrad; ComponentLink8Description: http://www.produktinfo.conrad.com/datenblaetter/150000-174999/172162-da-01-en-IC__SN_74_LS_245_N_DIP20__TID.pdf?src-supplier=Conrad; ComponentLink9URL: http://datasheet.iiic.cc/texas_instruments/SN74LS245N.pdf?src-supplier=IIIC; ComponentLink9Description: http://datasheet.iiic.cc/texas_instruments/SN74LS245N.pdf?src-supplier=IIIC; ComponentLink10URL: http://www.produktinfo.conrad.com/datenblaetter/1000000-1099999/001016937-da-01-en-IC_BUS_TRANS_8BIT_SN74LS245N_PDIP_20_TID.pdf?src-supplier=Conrad; ComponentLink10Description: http://www.produktinfo.conrad.com/datenblaetter/1000000-1099999/001016937-da-01-en-IC_BUS_TRANS_8BIT_SN74LS245N_PDIP_20_TID.pdf?src-supplier=Conrad; Supplier Part Number 1: 60K6873
footprint SN74LS245N
pins: 1 DIR, 2 A1, 3 A2, 4 A3, 5 A4, 6 A5, 7 A6, 8 A7, 9 A8, 10 GND, 11 B8, 12 B7, 13 B6, 14 B5, 15 B4, 16 B3, 17 B2, 18 B1, 19 OE', 20 VCC

## SN74LS273N
designator *
IC D-TYPE POS TRG SNGL 20DIP; Manufacturer: Texas Instruments; Manufacturer Part Number: SN74LS273N; Number of Bits: 8; Propagation Delay: 27ns; Frequency: 40MHz; Output Current: 8mA; Polarity: Non-Inverting; Min Supply Voltage: 4.75V; Operating Supply Voltage: 5V; Max Supply Voltage: 5.25V; Number of Elements: 1; Logic Function: D-Type,Flip-Flop; Clock Edge Trigger Type: Positive Edge; Turn-On Delay Time: 17ns; Number of Input Lines: 2; High Level Output Current: -400uA; Output Type: TTL; Supplier 1: RSComponents; Stock 1: 0; Mount: Through Hole; Case/Package: PDIP; Number of Pins: 20; Weight: 0.042297oz; Min Operating Temperature: 0°C; Max Operating Temperature: 70°C; Packaging: Rail/Tube; Number of Circuits: 8; Package Quantity: 20; Number of Bits per Element: 8; Low Level Output Current: 8mA; Number of Output Lines: 1; Max Frequency: 40MHz; Number of Channels: 8; Length: 24.33mm; Height: 4.57mm; Width: 6.35mm; Radiation Hardening: No; Lead Free: Contains Lead; REACH SVHC: No SVHC; ComponentLink1URL: https://www.distrelec.biz/Web/Downloads/14/_e/kg645614_E.pdf?mime=application%2Fpdf&src-supplier=Distrelec; ComponentLink1Description: https://www.distrelec.biz/Web/Downloads/14/_e/kg645614_E.pdf?mime=application%2Fpdf&src-supplier=Distrelec; ComponentLink2URL: http://focus.ti.com/lit/ds/symlink/sn74273.pdf?src-supplier=Avnet+Europe; ComponentLink2Description: http://focus.ti.com/lit/ds/symlink/sn74273.pdf?src-supplier=Avnet+Europe; ComponentLink3URL: http://www.ti.com/lit/ds/symlink/sn74ls273.pdf?src-supplier=Digi-Key; ComponentLink3Description: http://www.ti.com/lit/ds/symlink/sn74ls273.pdf?src-supplier=Digi-Key; ComponentLink4URL: https://www.verical.com/server-webapp/html/getDatasheet?partID=250181&src-supplier=Verical; ComponentLink4Description: https://www.verical.com/server-webapp/html/getDatasheet?partID=250181&src-supplier=Verical; ComponentLink5URL: http://datasheet.iiic.cc/texas_instruments/SN74LS273N.pdf?src-supplier=IIIC; ComponentLink5Description: http://datasheet.iiic.cc/texas_instruments/SN74LS273N.pdf?src-supplier=IIIC; ComponentLink6URL: http://www.produktinfo.conrad.com/datenblaetter/175000-199999/175129-da-01-en-LOGIK_IC_SN_74_LS_273_N_DIP20__TID.pdf?src-supplier=Conrad; ComponentLink6Description: http://www.produktinfo.conrad.com/datenblaetter/175000-199999/175129-da-01-en-LOGIK_IC_SN_74_LS_273_N_DIP20__TID.pdf?src-supplier=Conrad; ComponentLink7URL: http://www.produktinfo.conrad.com/datenblaetter/1000000-1099999/001016947-da-01-en-IC_DTPE_POS_TRG_S_SN74LS273N_PDIP_20_TID.pdf?src-supplier=Conrad; ComponentLink7Description: http://www.produktinfo.conrad.com/datenblaetter/1000000-1099999/001016947-da-01-en-IC_DTPE_POS_TRG_S_SN74LS273N_PDIP_20_TID.pdf?src-supplier=Conrad; Supplier Part Number 1: 0308354
footprint SN74LS273N
pins: 1 CLR', 2 1Q, 3 1D, 4 2D, 5 2Q, 6 3Q, 7 3D, 8 4D, 9 4Q, 10 GND, 11 CLK, 12 5Q, 13 5D, 14 6D, 15 6Q, 16 7Q, 17 7D, 18 8D, 19 8Q, 20 VCC

## SN74LS283N
designator *
Manufacturer: Texas Instruments; Manufacturer Part Number: SN74LS283N; Number of Bits: 4; Operating Supply Voltage: 5V; Min Supply Voltage: 4.75V; Max Supply Voltage: 5.25V; Low Level Output Current: 8mA; Logic Function: Binary Full Adder; High Level Output Current: -400uA; Number of Elements: 1; Propagation Delay: 24ns; Max Power Dissipation: 95mW; Min Input Voltage: 800mV; Max Input Voltage: 2V; Supplier 1: Newark; Stock 1: 0; Mount: Through Hole; Case/Package: PDIP; Number of Pins: 16; Weight: 0.03357oz; Min Operating Temperature: 0°C; Max Operating Temperature: 70°C; Packaging: Rail/Tube; Number of Channels: 1; Package Quantity: 25; Turn-On Delay Time: 24ns; Length: 19.3mm; Height: 4.57mm; Width: 6.35mm; Radiation Hardening: No; Lead Free: Lead Free; REACH SVHC: No SVHC; ComponentLink1URL: http://www.ti.com/general/docs/lit/getliterature.tsp?genericPartNumber=SN54LS283&&fileType=pdf&src-supplier=Avnet; ComponentLink1Description: http://www.ti.com/general/docs/lit/getliterature.tsp?genericPartNumber=SN54LS283&&fileType=pdf&src-supplier=Avnet; ComponentLink2URL: https://www.distrelec.biz/Web/Downloads/86/_e/nf645786_e.pdf?mime=application%2Fpdf&src-supplier=Distrelec; ComponentLink2Description: https://www.distrelec.biz/Web/Downloads/86/_e/nf645786_e.pdf?mime=application%2Fpdf&src-supplier=Distrelec; ComponentLink3URL: http://www.ti.com/general/docs/lit/getliterature.tsp?genericPartNumber=SN74LS283&&fileType=pdf&src-supplier=Element14; ComponentLink3Description: http://www.ti.com/general/docs/lit/getliterature.tsp?genericPartNumber=SN74LS283&&fileType=pdf&src-supplier=Element14; ComponentLink4URL: http://focus.ti.com/lit/ds/symlink/sn74ls283.pdf?src-supplier=Avnet+Europe; ComponentLink4Description: http://focus.ti.com/lit/ds/symlink/sn74ls283.pdf?src-supplier=Avnet+Europe; ComponentLink5URL: https://www.verical.com/server-webapp/html/getDatasheet?partID=250182&src-supplier=Verical; ComponentLink5Description: https://www.verical.com/server-webapp/html/getDatasheet?partID=250182&src-supplier=Verical; ComponentLink6URL: http://www.produktinfo.conrad.com/datenblaetter/1000000-1099999/001016953-da-01-en-IC_4BIT_BIN_FUL_A_SN74LS283N_PDIP_16_TID.pdf?src-supplier=Conrad; ComponentLink6Description: http://www.produktinfo.conrad.com/datenblaetter/1000000-1099999/001016953-da-01-en-IC_4BIT_BIN_FUL_A_SN74LS283N_PDIP_16_TID.pdf?src-supplier=Conrad; Supplier Part Number 1: 08F7179
footprint SN74LS283N
pins: 1 E2, 2 B2, 3 A2, 4 E1, 5 A1, 6 B1, 7 C0, 8 GND, 9 VCC, 10 B3, 11 A3, 12 E3, 13 A4, 14 B4, 15 E4, 16 C4